# Altium schematic symbol library RES.A1.SCHLIB: 2 symbols
Pins are listed as number, name and electrical type; pins without a type are passive.

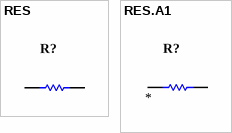
[diagram p0: symbols RES to RES.A1]

## RES
designator R?
Value: *
pins: 1, 2
1 alternate drawing of the same symbol

## RES.A1
designator R?
Value: *
pins: 1, 2
1 alternate drawing of the same symbol